# Altium schematic symbol library ferrite_bead.SchLib: 3 symbols
Pins are listed as number, name and electrical type; pins without a type are passive.

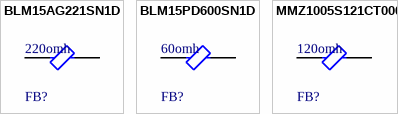
[diagram p0: symbols BLM15AG221SN1D to MMZ1005S121CT000]

## BLM15AG221SN1D
designator FB?, comment 220omh
Chip Ferrite Bead, 0402, 220Ω @ 100MHz, 0.29Ω, 25%, 450mA; Impedance: 220R; Shielding: Unshielded; Number of Lines: 1; DC Resistance (DCR): 290mR; DC Current: 300mA; Resistance: 350mR; Material: Steel; Radiation Hardening: No; Number of Pins: 2; REACH SVHC: No SVHC; Min Operating Temperature: -55°C; Width: 0.5mm; Lead Free: Lead Free; Case/Package: 0402; Case Code (Imperial): 0402; Max Current Rating: 450mA; Max Operating Temperature: 125°C; Length: 1mm; Tolerance: 25%; Current Rating: 450mA; Core Material: Ferrite; Depth: 0.55mm; Max DC Current: 300mA; Military Standard: Not; Termination: SMD/SMT; Height: 0.5mm; Packaging: Tape and Reel; Package Quantity: 1; Test Frequency: 100MHz; Number of Circuits: 1; RoHS Compliant: Yes; Case Code (Metric): 1005
footprint FP-BLM15-0_05-IPC_C
footprint FP-BLM15-0_05-IPC_A
footprint FP-BLM15-0_05-MFG
footprint FP-BLM15-0_05-IPC_B
pins: 1, 2

## BLM15PD600SN1D
designator FB?, comment 60omh
Chip Ferrite Bead, 0402, 60Ω @ 100MHz, 0.06Ω, 25%, 1.7A; Number of Circuits: 1; DC Resistance (DCR): 60mR; Material: Steel; Impedance: 60R; Test Frequency: 100MHz; Lead Free: Lead Free; Radiation Hardening: No; Min Operating Temperature: -55°C; Case Code (Metric): 1005; Series: BLM15PD; Max Current Rating: 1.7A; Length: 1mm; Tolerance: 25%; Current Rating: 1.7A; RoHS Compliant: Yes; DC Current: 1.7A; Width: 0.5mm; Core Material: Ferrite; Number of Pins: 2; Depth: 0.55mm; Case Code (Imperial): 0402; Number of Lines: 1; Package Quantity: 1; Max Operating Temperature: 125°C; Case/Package: 0402; Termination: SMD/SMT; Packaging: Tape and Reel; Height: 0.5mm; Military Standard: Not; REACH SVHC: No SVHC; Max DC Current: 1.7A; DC Resistance-Max: 60MR
footprint FP-BLM15-0_05-d0_7-MFG
footprint FP-BLM15-0_05-d0_7-IPC_A
footprint FP-BLM15-0_05-d0_7-IPC_C
footprint FP-BLM15-0_05-d0_7-IPC_B
pins: 1, 2

## MMZ1005S121CT000
designator FB?, comment 120omh
Signal Line Ferrite Bead 120Ω @ 100MHz 500mA DCR 220mΩ SMD 0402; DC Resistance (DCR): 250mR; Tolerance: 25%; Impedance: 120R; Series: MMZ; Height: 0.022inch; RoHS Compliant: Yes; Package Quantity: 1; REACH SVHC: No SVHC; Lead Free: Lead Free; Current Rating: 500mA; Packaging: Tape and Reel; Case Code (Imperial): 0402; Width: 0.02inch; Max DC Current: 500mA; Core Material: Ferrite; Case Code (Metric): 1005; Depth: 0.5mm; Case/Package: 0402; Mount: Surface Mount; Length: 0.039inch
footprint FP-MMZ1005-IPC_C
footprint FP-MMZ1005-IPC_B
footprint FP-MMZ1005-IPC_A
footprint FP-MMZ1005-MFG
pins: 1, 2